# Altium schematic symbol library Components - 17.04.26 - 23.35.SchLib: 1 symbol
Pins are listed as number, name and electrical type; pins without a type are passive.

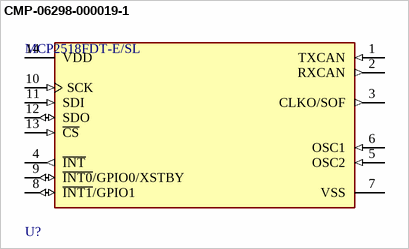
[diagram p0: symbol CMP-06298-000019-1]

## CMP-06298-000019-1
designator U?, comment MCP2518FDT-E/SL
IC CAN CONTROLLER SPI 14SOIC; RoHS Compliant: Yes
footprint FP-C04-065-SL-MFG
footprint FP-C04-065-SL-IPC_B
footprint FP-C04-065-SL-IPC_C
footprint FP-C04-065-SL-IPC_A
pins: 1 TXCAN (in), 2 RXCAN (out), 3 CLKO/SOF (out), 4 ~{INT} (out), 5 OSC2 (in), 6 OSC1 (in), 7 VSS (power), 8 ~{INT1}/GPIO1 (io), 9 ~{INT0}/GPIO0/XSTBY (io), 10 SCK (in), 11 SDI (in), 12 SDO (io), 13 ~{CS} (in), 14 VDD (power)